# EAGLE library part MCP23017-E/SO (library MCP23017-E_SO)
MCP23017 Series 5.5 V 1.7 MHz SMT 16-Bit I2C I/O Expander - SOIC-28
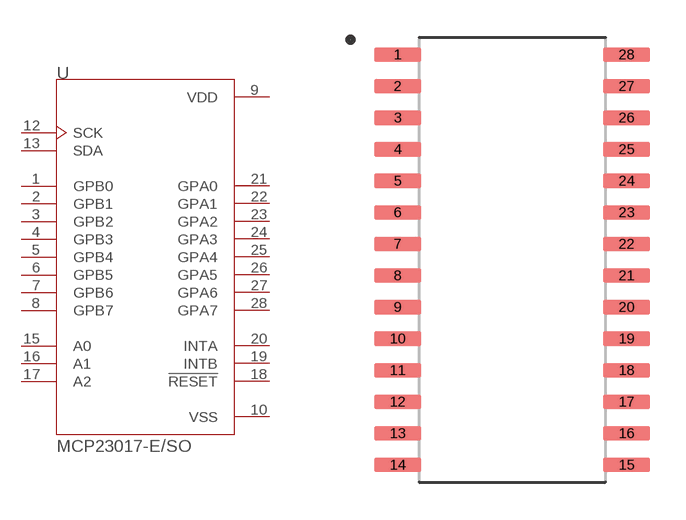
[diagram p0: symbol with the pads of SOIC127P1030X265-28N; footprint SOIC127P1030X265-28N]

Designator prefix U

## MCP23017-E/SO (Description: I/O Expander 16 I²C 1.7MHz 28-SOIC; Digi-Key_Part_Number: MCP23017-E/SO-ND; Digi-Key_Purchase_URL: https://www.digikey.nl/product-detail/en/microchip-technology/MCP23017-E-SO/MCP23017-E-SO-ND/894271?utm_source=snapeda&utm_medium=aggregator&utm_campaign=symbol; MF: Microchip; MP: MCP23017-E/SO; Package: SOIC-28 Microchip)  [SOIC127P1030X265-28N]
1  GPB0
2  GPB1
3  GPB2
4  GPB3
5  GPB4
6  GPB5
7  GPB6
8  GPB7
9  VDD  pwr
10  VSS  pwr
12  SCK  in
13  SDA
15  A0  in
16  A1  in
17  A2  in
18  !RESET  out
19  INTB  out
20  INTA  out
21  GPA0
22  GPA1
23  GPA2
24  GPA3
25  GPA4
26  GPA5
27  GPA6
28  GPA7

## Footprint SOIC127P1030X265-28N (pad centres in mm)
smd 1.9 x 0.6: 1 -4.605,8.255; 2 -4.605,6.985; 3 -4.605,5.715; 4 -4.605,4.445; 5 -4.605,3.175; 6 -4.605,1.905; 7 -4.605,0.635; 8 -4.605,-0.635; 9 -4.605,-1.905; 10 -4.605,-3.175; 11 -4.605,-4.445; 12 -4.605,-5.715; 13 -4.605,-6.985; 14 -4.605,-8.255; 15 4.605,-8.255; 16 4.605,-6.985; 17 4.605,-5.715; 18 4.605,-4.445; 19 4.605,-3.175; 20 4.605,-1.905; 21 4.605,-0.635; 22 4.605,0.635; 23 4.605,1.905; 24 4.605,3.175; 25 4.605,4.445; 26 4.605,5.715; 27 4.605,6.985; 28 4.605,8.255